# Altium footprint library BSPO.PcbLib: 178 footprints (part 4 of 12)
Each footprint in its own frame and in the unit in brackets; x right, y up, seen from the top. Pads: shape width x height; smd on the part's side, far side on the other; paste and mask are expansions set on the pad; w line width, h text height; cw(c..) or ccw(c..) is an arc to the next point about the centre after c.
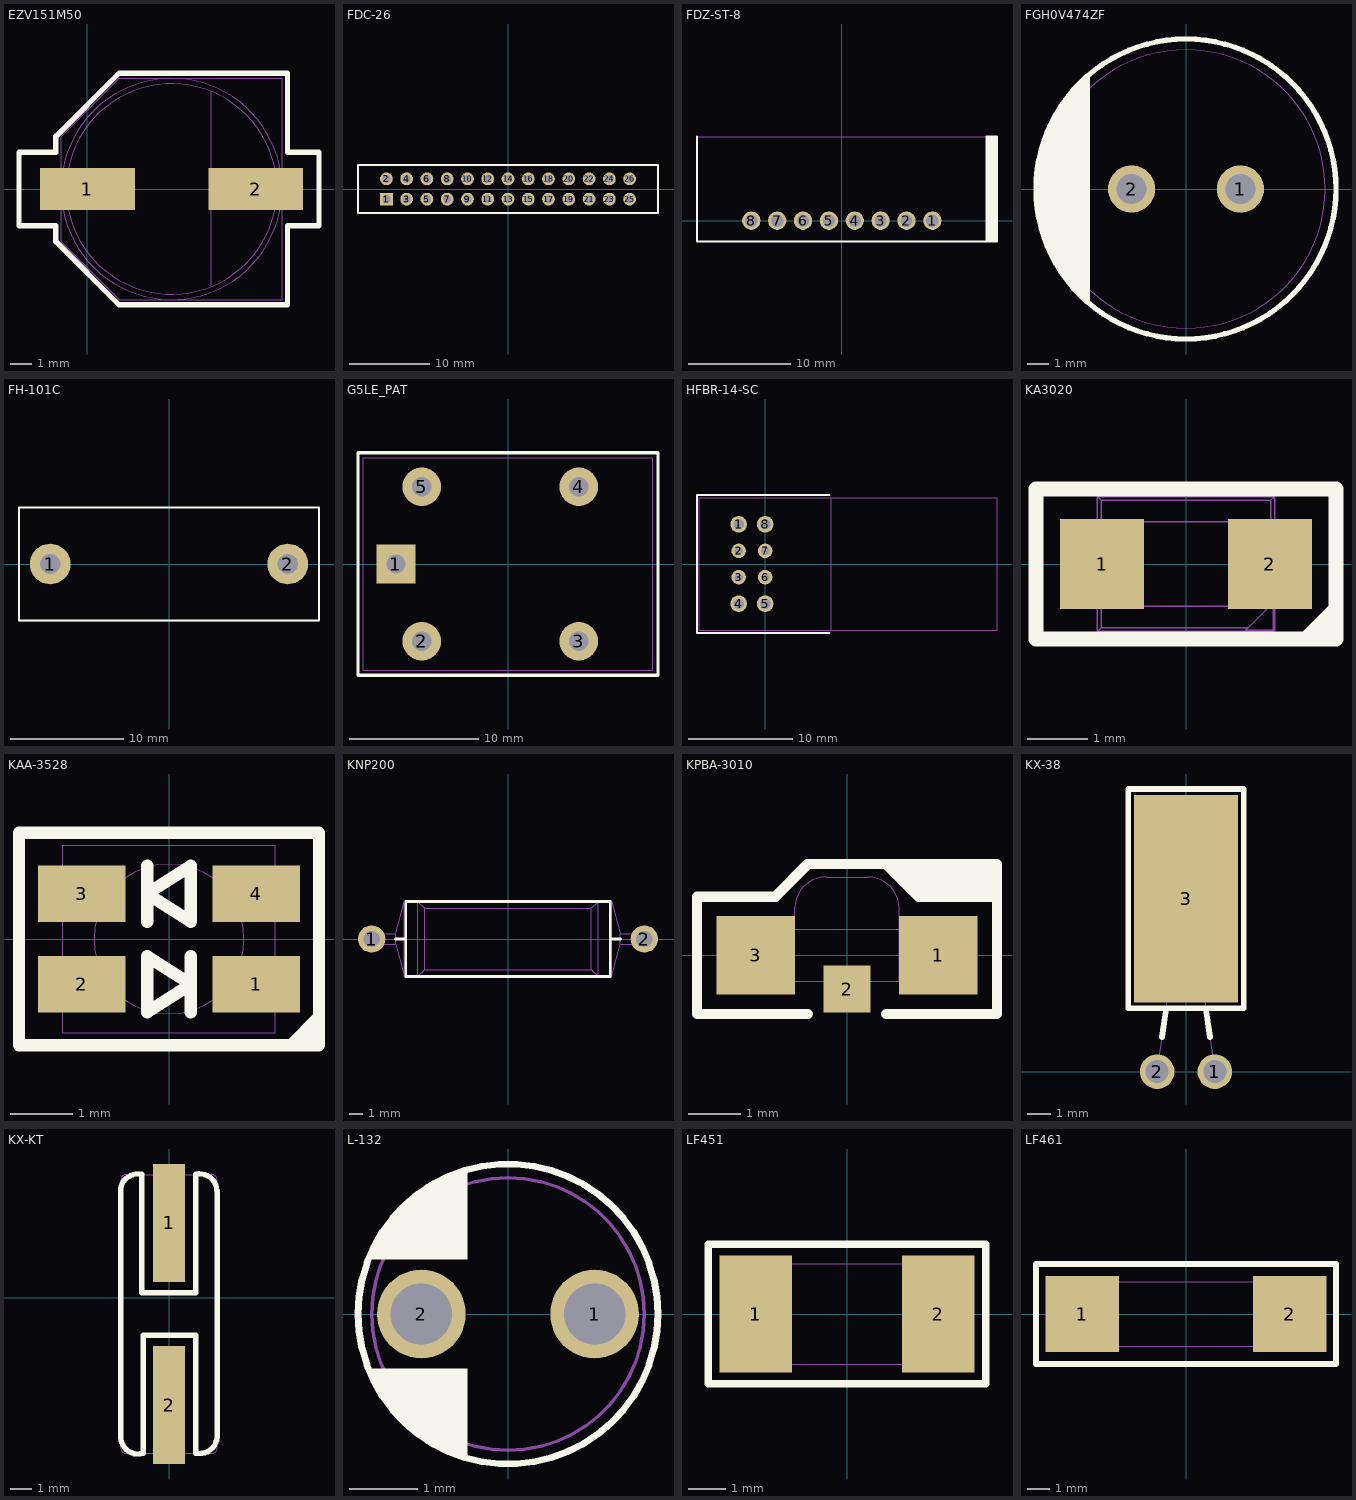
[diagram p3: the footprints below, top view; thin cyan lines are the x and y axes]

## EZV151M50 [mm]
pads (2):
  rect 4.5x2 smd: 1(0,0) 2(8,0)
Top Overlay:
  lines w0.25: -3.25,-1.75 -1.5,-1.75 -1.5,-2.5 1.5,-5.5 9.5,-5.5 9.5,-1.75 11,-1.75 11,1.75 9.5,1.75 9.5,5.5 1.5,5.5 -1.5,2.5 -1.5,1.75 -3.25,1.75 -3.25,-1.75
Mechanical 1:
  circle w0.05: c4,0 r5
  circle w0.05: c4,0 r5.25
  lines w0.02: 5.88,-4.63 5.88,4.63
  lines w0.05: -1.25,-0.5 -1.75,-0.5 -1.75,0.5 -1.25,0.5 ; 9.25,-0.5 9.75,-0.5 9.75,0.5 9.25,0.5 ; -1.25,-2.5 -1.25,2.5 1.5,5.25 9.25,5.25 9.25,-5.25 1.5,-5.25 -1.25,-2.5

## FDC-26 [mm]
pads (26):
  rect 1.6x1.6 hole 1: 1(-15.24,-1.27)
  round 1.6 hole 1: 2(-15.24,1.27) 3(-12.7,-1.27) 4(-12.7,1.27) 5(-10.16,-1.27) 6(-10.16,1.27) 7(-7.62,-1.27) 8(-7.62,1.27) 9(-5.08,-1.27) 10(-5.08,1.27) 11(-2.54,-1.27) 12(-2.54,1.27) 13(0,-1.27) 14(0,1.27) 15(2.54,-1.27) 16(2.54,1.27) 17(5.08,-1.27) 18(5.08,1.27) 19(7.62,-1.27) 20(7.62,1.27) 21(10.16,-1.27) 22(10.16,1.27) 23(12.7,-1.27) 24(12.7,1.27) 25(15.24,-1.27) 26(15.24,1.27)
Top Overlay:
  lines w0.25: -18.795,-3 18.795,-3 18.795,3 -18.795,3 -18.795,-3
Mechanical 1:
  lines w0.025: -18.795,-3 18.795,-3 18.795,3 -18.795,3 -18.795,-3

## FDZ-ST-8 [mm]
pads (8):
  round 1.8 hole 1.2: 1(8.89,0) 2(6.35,0) 3(3.81,0) 4(1.27,0) 5(-1.27,0) 6(-3.81,0) 7(-6.35,0) 8(-8.89,0)
Top Overlay:
  region: 15.24,-2.032 15.24,8.255 14.224,8.255 14.224,-2.032
  lines w0.2: -14.224,8.255 -14.224,-2.032 14.224,-2.032 ; 14.224,-2.032 14.224,8.255 15.24,8.255 15.24,-2.032 14.224,-2.032
Top Solder:
  lines w0.02: -14.224,-2.032 -14.224,0 ; 14.224,-2.032 14.224,0
Mechanical 1:
  lines w0.02: -14.224,-2.032 14.224,-2.032 14.224,8.255 -14.224,8.255 -14.224,-2.032

## FGH0V474ZF [mm]
pads (2):
  round 2.2 hole 1.4: 1(2.54,0) 2(-2.54,0)
Top Overlay:
  circle w0.25: c0,0 r7
  region: -5.28,4.6 -6.28,3.1 -6.68,2.1 -6.98,0.2 -6.98,-0.7 -6.58,-2.4 -5.78,-4 -4.48,-5.4 -4.48,5.3
  lines w0.01: -7,0 ccw(c0,0) 7,0
Mechanical 1:
  lines w0.05: -6.5,0 cw(c0,0) 6.5,0 cw(c0,0) -6.5,0

## FH-101C [mm]
pads (2):
  round 3.6 hole 1.8: 1(-10.5,0) 2(10.5,0)
Top Overlay:
  lines w0.2: -13.25,-5 13.25,-5 13.25,5 -13.25,5 -13.25,-5
Mechanical 1:
  lines w0.02: -13.25,-5 13.25,-5 13.25,5 -13.25,5 -13.25,-5

## G5LE_PAT [mm]
pads (5):
  rect 3x3 hole 1.5: 1(-8.7,0)
  round 3 hole 1.5: 2(-6.7,-6) 3(5.5,-6) 4(5.5,6) 5(-6.7,6)
Top Overlay:
  lines w0.25: -11.65,-8.65 -11.65,8.65
  lines w0.254: -11.65,-8.65 11.65,-8.65 11.65,8.65 -11.65,8.65
Mechanical 1:
  lines w0.02: -11.25,-8.25 11.25,-8.25 11.25,8.25 -11.25,8.25 -11.25,-8.25

## HFBR-14-SC [mm]
pads (8):
  round 1.6 hole 1: 1(-2.54,3.81) 4(-2.54,-3.81) 5(0,-3.81) 8(0,3.81)
  round 1.4 hole 0.8: 2(-2.54,1.27) 3(-2.54,-1.27) 6(0,-1.27) 7(0,1.27)
Top Overlay:
  lines w0.2: 6.2,-6.65 -6.55,-6.65 -6.55,6.65 6.2,6.65
Mechanical 1:
  lines w0.02: 6.35,-6.35 22.3,-6.35 22.3,6.35 6.35,6.35 ; 6.35,-6.35 -6.35,-6.35 -6.35,6.35 6.35,6.35 ; 6.35,-6.35 6.35,6.35

## KA3020 [mm]
pads (2):
  rect 1.4x1.5 smd: 1(-1.4,0) 2(1.4,0)
Top Overlay:
  lines w0.25: 2,-1.25 2.5,-0.75 ; 2.25,-1.25 2.5,-1 ; -2.5,-1.25 2.5,-1.25 2.5,1.25 -2.5,1.25 -2.5,-1.25
Mechanical 1:
  lines w0.025: -1.475,-1.125 1.475,-1.125 ; -1.475,-1.125 -1.475,-0.7 ; -1.475,-1.125 -1.409,-1.059 ; -1.475,-0.7 -1.475,0.7 ; -1.475,-0.7 -1.525,-0.7 -1.625,-0.7 -1.625,0.7 -1.525,0.7 -1.475,0.7 ; -1.475,0.7 -1.475,1.125 ; -1.475,1.125 1.475,1.125 ; -1.475,1.125 -1.409,1.059 ; -1.409,-1.059 1.041,-1.059 ; -1.409,-1.059 -1.409,1.059 ; -1.409,1.059 1.409,1.059 ; 1.041,-1.059 1.409,-0.691 ; 1.041,-1.059 0.997,-1.103 1.453,-1.103 ; 1.409,-0.691 1.409,1.059 ; 1.409,-0.691 1.453,-0.647 1.453,-1.103 ; 1.409,1.059 1.475,1.125 ; 1.453,-1.103 1.475,-1.125 ; 1.475,-1.125 1.475,-0.7 ; 1.475,-0.7 1.475,0.7 ; 1.475,-0.7 1.525,-0.7 1.625,-0.7 1.625,0.7 1.525,0.7 1.475,0.7 ; 1.475,0.7 1.475,1.125 ; -1,-0.7 1,-0.7 1,0.7 -1,0.7 -1,-0.7

## KAA-3528 [mm]
pads (4):
  rect 1.4x0.9 smd: 1(1.4,-0.725) 2(-1.4,-0.725) 3(-1.4,0.725) 4(1.4,0.725)
Top Overlay:
  lines w0.2: -0.35,0.275 -0.35,1.175 ; 0.35,-1.175 0.35,-0.275 ; 1.95,-1.7 2.4,-1.25 ; 2.2,-1.7 2.4,-1.5 ; -2.4,-1.7 2.4,-1.7 2.4,1.7 -2.4,1.7 -2.4,-1.7 ; -0.35,-1.175 0.35,-0.725 -0.35,-0.275 -0.35,-1.175 ; -0.35,0.725 0.35,1.175 0.35,0.275 -0.35,0.725
Mechanical 1:
  circle w0.02: c0,0 r1.2
  lines w0.02: -1.7,-1.1 -1.85,-1.1 -1.85,-0.35 -1.7,-0.35 ; -1.7,0.35 -1.85,0.35 -1.85,1.1 -1.7,1.1 ; 1.7,-1.1 1.85,-1.1 1.85,-0.35 1.7,-0.35 ; 1.7,0.35 1.85,0.35 1.85,1.1 1.7,1.1 ; -1.7,-1.5 1.7,-1.5 1.7,1.5 -1.7,1.5 -1.7,-1.5

## KNP200 [mm]
pads (2):
  round 2 hole 1.2: 1(-10,0) 2(10,0)
Top Overlay:
  lines w0.2: -8.25,0 -7.5,0 ; 7.5,0 8.25,0 ; -7.5,-2.75 7.5,-2.75 7.5,2.75 -7.5,2.75 -7.5,-2.75
Mechanical 1:
  lines w0.02: -8.25,-0.4 -7.62,-2.75 ; -8.25,-0.4 -8.25,0 -8.25,0.4 ; -8.25,-0.4 -9,-0.4 -10,-0.4 cw(c-10,0) -10,0.4 -9,0.4 -8.25,0.4 ; -8.25,0.4 -7.62,2.75 ; -7.62,-2.75 -7.62,2.75 ; -7.62,-2.75 -6.62,-2.75 ; -7.62,2.75 -6.62,2.75 ; -6.62,-2.75 -6.62,2.75 ; -6.62,-2.75 -6.12,-2.25 ; -6.62,2.75 -6.12,2.25 ; -6.12,-2.25 6.12,-2.25 ; -6.12,-2.25 -6.12,2.25 ; -6.12,2.25 6.12,2.25 ; 6.12,-2.25 6.12,2.25 ; 6.12,-2.25 6.62,-2.75 ; 6.12,2.25 6.62,2.75 ; 6.62,-2.75 7.62,-2.75 ; 6.62,-2.75 6.62,2.75 ; 6.62,2.75 7.62,2.75 ; 7.62,-2.75 7.62,2.75 ; 7.62,-2.75 8.25,-0.4 ; 7.62,2.75 8.25,0.4 ; 8.25,-0.4 8.25,0 8.25,0.4 ; 8.25,-0.4 9,-0.4 10,-0.4 ccw(c10,0) 10,0.4 9,0.4 8.25,0.4

## KPBA-3010 [mm]
pads (3):
  rect 1.5x1.5 smd: 1(1.75,0) 3(-1.75,0)
  rect 0.9x0.9 smd: 2(0,-0.65)
Top Overlay:
  region: 0.75,1.75 1.375,1.125 2.875,1.125 2.875,1.75 0.875,1.75
  lines w0.2: -0.75,-1.125 -2.875,-1.125 -2.875,1.125 -1.375,1.125 -0.75,1.75 0.75,1.75 ; 0.75,-1.125 2.875,-1.125 2.875,1.125 ; 0.75,1.75 2.875,1.75 2.875,1.125 ; 0.75,1.75 1.375,1.125 2.875,1.125
Mechanical 1:
  lines w0.02: -1,-0.5 -1,0.5 -1,0.9 cw(c-0.4,0.9) -0.4,1.5 0.4,1.5 cw(c0.4,0.9) 1,0.9 1,0.5 1,-0.5 ; -1.5,-0.5 -1.5,0.5 1.5,0.5 1.5,-0.5 -1.5,-0.5

## KX-38 [mm]
pads (3):
  round 1.5 hole 1: 1(1.25,0) 2(-1.25,0)
  rect 4.5x9 smd: 3(0,7.5)
Top Overlay:
  lines w0.25: -1.036,1.5 -0.857,2.75 ; 0.857,2.75 1.036,1.5 ; -2.5,2.75 2.5,2.75 2.5,12.25 -2.5,12.25 -2.5,2.75
Mechanical 1:
  lines w0.025: -1.25,0 -0.75,3.5 ; 0.75,3.5 1.25,0 ; -1.5,3.5 1.5,3.5 1.5,10.5 -1.5,10.5 -1.5,3.5

## KX-KT [mm]
pads (2):
  rect 1.5x5.5 smd: 1(0,3.5) 2(0,-5)
Top Overlay:
  lines w0.25: -2.26,5.087 cw(c-1.459,4.977) -1.282,5.767 ; -2.252,-6.498 ccw(c-1.452,-6.484) -1.216,-7.248 ; -2.25,-6.55 -2.25,5.1 ; -1.275,5.775 -1.275,0.25 1.25,0.25 1.25,5.775 ; -1.2,-7.25 -1.2,-1.75 1.25,-1.75 1.25,-7.25 ; 1.255,5.774 cw(c1.427,4.984) 2.236,5.018 ; 1.257,-7.242 ccw(c1.434,-6.452) 2.241,-6.497 ; 2.25,-6.5 2.25,5
Mechanical 1:
  lines w0.025: -2.25,-7 ccw(c-2,-7) -2,-7.25 2,-7.25 ccw(c2,-7) 2.25,-7 2.25,5.5 ccw(c2,5.5) 2,5.75 -2,5.75 ccw(c-2,5.5) -2.25,5.5 -2.25,-7

## L-132 [mm]
pads (2):
  round 1.3 hole 0.9: 1(1.27,0) 2(-1.27,0)
Top Overlay:
  region: -1.2,1.9 -1.7,1.4 -2.1,0.8 -0.6,0.8 -0.6,2.1
  region: -0.6,-2.1 -0.6,-0.8 -2.1,-0.8 -1.7,-1.4 -1.2,-1.9
  lines w0.1: -2.2,0 cw(c0,0) 2.2,0 cw(c0,0) -2.2,0
Mechanical 1:
  lines w0.05: -2,0 ccw(c0,0) 2,0 ccw(c0,0) -2,0

## LF451 [mm]
pads (2):
  rect 1.95x3.15 smd: 1(-2.45,0) 2(2.45,0)
Top Overlay:
  lines w0.2: -3.725,-1.875 3.725,-1.875 3.725,1.875 -3.725,1.875 -3.725,-1.875
Mechanical 1:
  lines w0.02: -1.6,-1.35 -1.6,1.35 ; 1.6,-1.35 1.6,1.35 ; -3.05,-1.35 3.05,-1.35 3.05,1.35 -3.05,1.35 -3.05,-1.35

## LF461 [mm]
pads (2):
  rect 3.3x3.4 smd: 1(-4.675,0) 2(4.675,0)
Top Overlay:
  lines w0.25: -6.75,-2.25 6.75,-2.25 6.75,2.25 -6.75,2.25 -6.75,-2.25
Mechanical 1:
  lines w0.025: -3.35,-1.46 3.35,-1.46 ; -3.35,1.46 3.35,1.46 ; -5.05,-1.56 -5.05,1.56 -3.35,1.56 -3.35,-1.56 -5.05,-1.56 ; 3.35,-1.56 3.35,1.56 5.05,1.56 5.05,-1.56 3.35,-1.56